# Altium schematic symbol library DC Power Jack.Schlib: 1 symbol
Pins are listed as number, name and electrical type; pins without a type are passive.

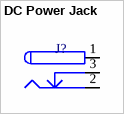
[diagram p0: symbol DC Power Jack]

## DC Power Jack
designator J?  (value not drawn)
DC Power Jack. Center Pin 2.5mm. Diameter: 5.7mm; Designer: Ali Hafizi; Company: Personal; Project Name: Laser; Adding Date: 10/21/2009
footprint DC Power Jack 1 (Power Adaptor Jack)
footprint DC Power Jack 2 (DC Power Jack. Center Pin 2.5mm. Diameter: 5.7mm)
footprint Jack-DC002 3.5*1.3mmm (Dc power jack fermale)
pins: 1 (power), 2 (power), 3 (power)